# Altium schematic symbol library encoder.SchLib: 1 symbol
Pins are listed as number, name and electrical type; pins without a type are passive.

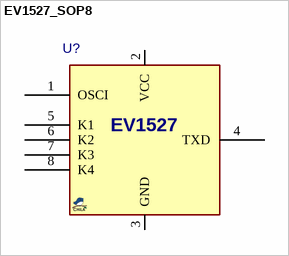
[diagram p0: symbol EV1527_SOP8]

## EV1527_SOP8
designator U?, comment EV1527  (value not drawn)
Encoder OTP, 20bits; MANF_P#: EV1527, RT1527, FP1527, SC1527, SCL1527; PARAM2: 3~12VCC; VALUE: EV1527; PACKAGE: SOP-8
footprint SO_8 (SOP-8, 5x3.9mm body 1.27mm pitch, SOT96-1, M08A, S8, SOIC8, VO8, MS-012AA(JEDEC), R-8, 8S2, VOG8)
pins: 1 OSCI, 2 VCC, 3 GND, 4 TXD, 5 K1, 6 K2, 7 K3, 8 K4